# Altium schematic symbol library SCH - POWER - SWITCHMODE - TI TPS65231A2_DCA_48.SchLib: 1 symbol
Pins are listed as number, name and electrical type; pins without a type are passive.

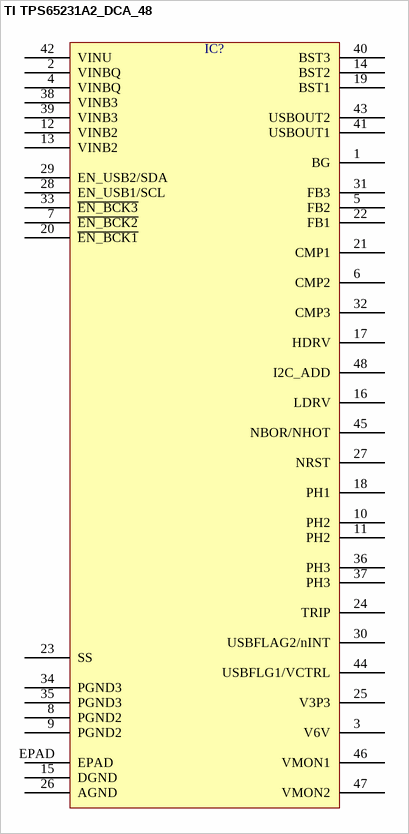
[diagram p0: symbol TI TPS65231A2_DCA_48]

## TI TPS65231A2_DCA_48
designator IC?  (value not drawn)
pins: 1 BG, 2 VINBQ, 3 V6V, 4 VINBQ, 5 FB2, 6 CMP2, 7 ~{EN_BCK2}, 8 PGND2, 9 PGND2, 10 PH2, 11 PH2, 12 VINB2, 13 VINB2, 14 BST2, 15 DGND, 16 LDRV, 17 HDRV, 18 PH1, 19 BST1, 20 ~{EN_BCK1}, 21 CMP1, 22 FB1, 23 SS, 24 TRIP, 25 V3P3, 26 AGND, 27 NRST, 28 EN_USB1/SCL, 29 EN_USB2/SDA, 30 USBFLAG2/nINT, 31 FB3, 32 CMP3, 33 ~{EN_BCK3}, 34 PGND3, 35 PGND3, 36 PH3, 37 PH3, 38 VINB3, 39 VINB3, 40 BST3, 41 USBOUT1, 42 VINU, 43 USBOUT2, 44 USBFLG1/VCTRL, 45 NBOR/NHOT, 46 VMON1, 47 VMON2, 48 I2C_ADD, EPAD